# EAGLE library part 05_PINHEAD_1X8 (library femtoduino)
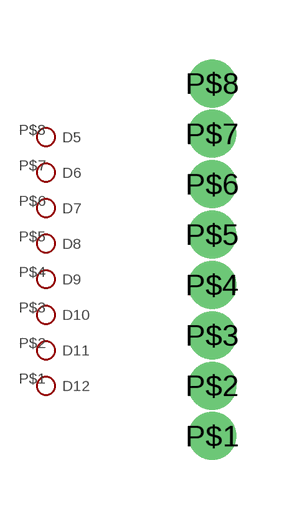
[diagram p2: symbol with the pads of 05_PINHEAD_1X8_PACKAGE; footprint 05_PINHEAD_1X8_PACKAGE]

Designator prefix -

## 05_PINHEAD_1X8  [05_PINHEAD_1X8_PACKAGE]
P$1  D12
P$2  D11
P$3  D10
P$4  D9
P$5  D8
P$6  D7
P$7  D6
P$8  D5

## Footprint 05_PINHEAD_1X8_PACKAGE (pad centres in mm)
drill 0.7 pad 1.016: P$1 0,0; P$2 0,1.27; P$3 0,2.54; P$4 0,3.81; P$5 0,5.08; P$6 0,6.35; P$7 0,7.62; P$8 0,8.89